# EAGLE library part LM3478 (library RalimTek)
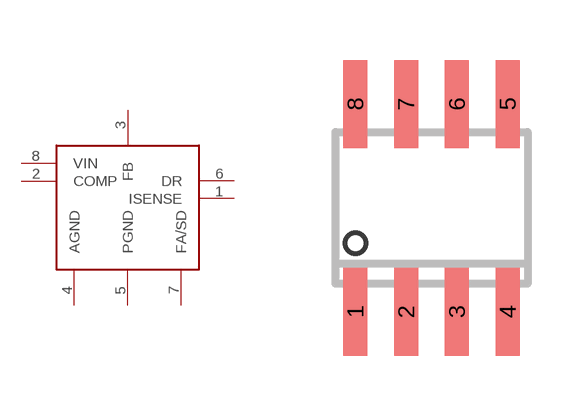
[diagram p23: symbol with the pads of SOIC8; footprint SOIC8]

Designator prefix -

## LM3478  [SOIC8]
1  ISENSE
2  COMP
3  FB
4  AGND
5  PGND
6  DR
7  FA/SD
8  VIN

## Footprint SOIC8 (pad centres in mm)
Small Outline IC
smd 0.6 x 2.2: 1 -1.905,-2.6; 2 -0.635,-2.6; 3 0.635,-2.6; 4 1.905,-2.6; 5 1.905,2.6; 6 0.635,2.6; 7 -0.635,2.6; 8 -1.905,2.6